# Altium schematic symbol library Keystone_7698.SchLib: 1 symbol
Pins are listed as number, name and electrical type; pins without a type are passive.

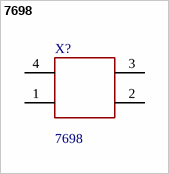
[diagram p0: symbol 7698]

## 7698
designator X?
Screw Terminal;Nickel;15 Amp;Snap-In;Vertical;Unassembled;M3 Thrd | Keystone Electronics 7698
footprint KEYSTONE_7698
pins: 1, 2 1, 3 1, 4 1